# Altium schematic symbol library roboime.SchLib: 65 symbols
Pins are listed as number, name and electrical type; pins without a type are passive.

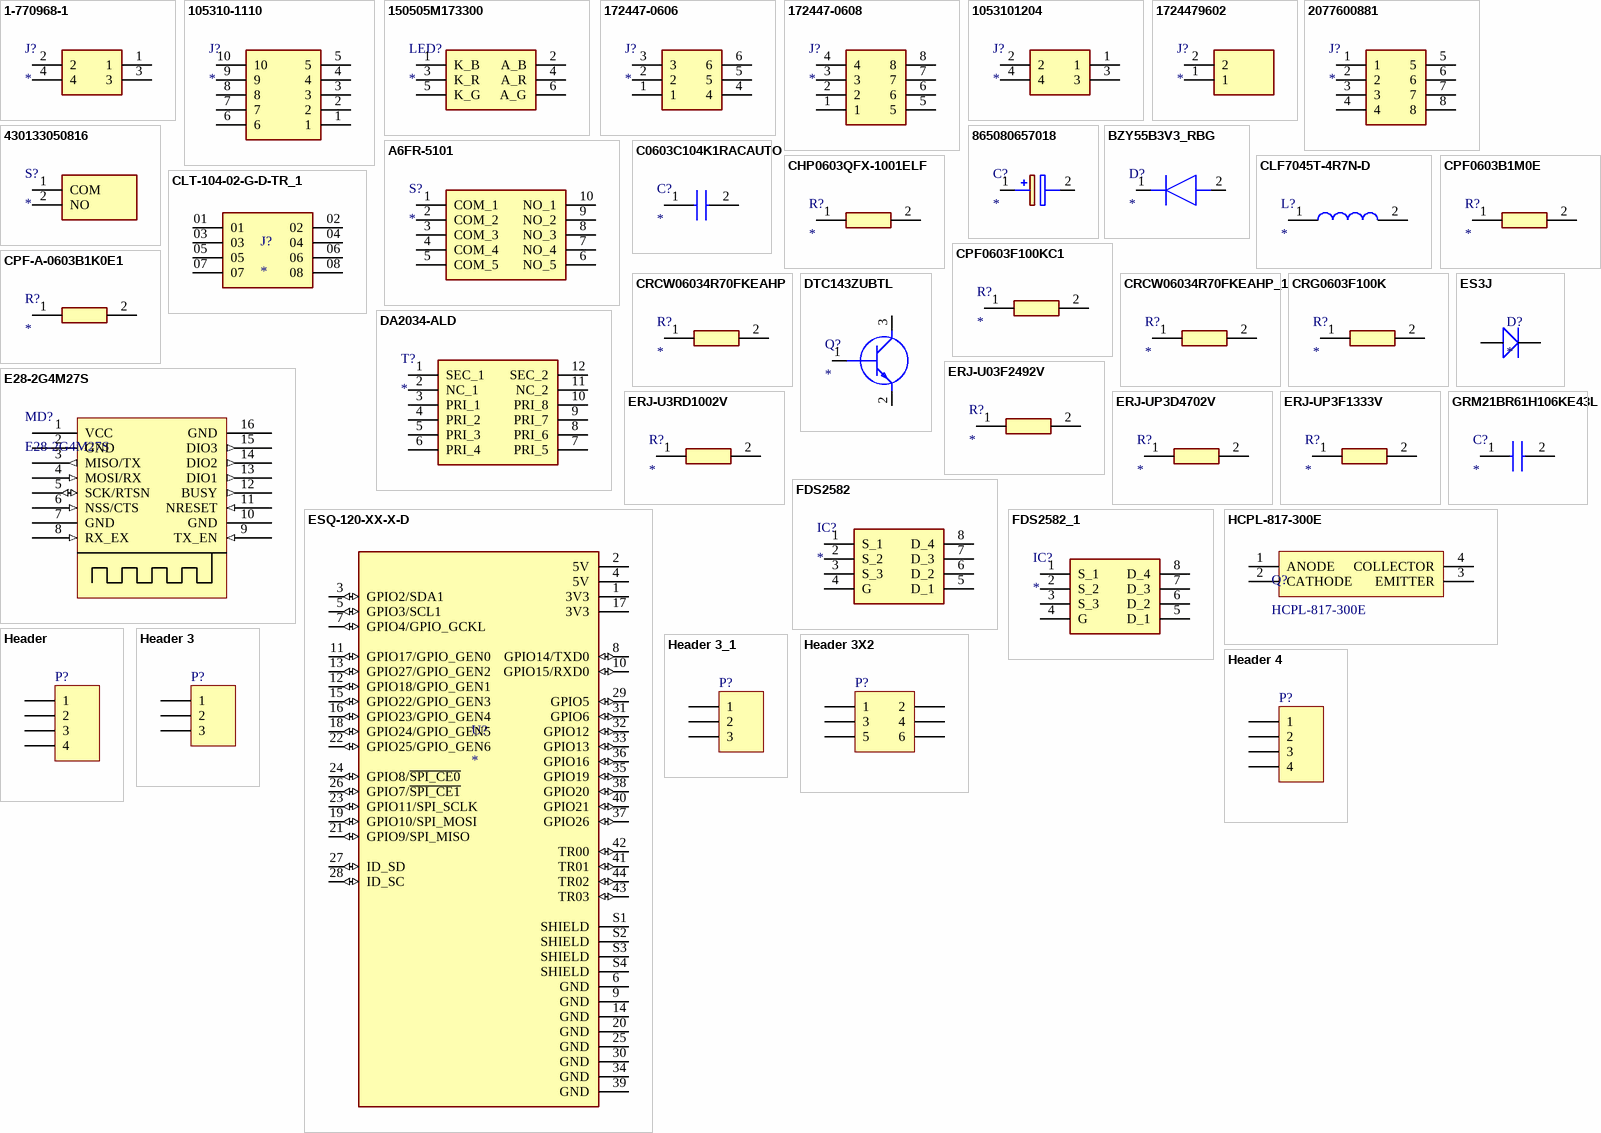
[diagram p0: symbols 1-770968-1 to Header 4]

## 1-770968-1
designator J?
Connector; Manufacturer_Name: TE Connectivity; Manufacturer_Part_Number: 1-770968-1; Datasheet Link: https://datasheet.datasheetarchive.com/originals/distributors/Datasheets_SAMA/7eb448bec4e70340ec9a234650d12d67.pdf; Height: 11.86mm; Mouser Part Number: 571-1-770968-1; Mouser Price/Stock: https://www.mouser.co.uk/ProductDetail/TE-Connectivity-AMP/1-770968-1?qs=8ra417Yzz3ABzAIod6x5Lw%3D%3D; Arrow Part Number: 1-770968-1; Arrow Price/Stock: https://www.arrow.com/en/products/1-770968-1/te-connectivity?region=europe
footprint 17709681
pins: 1, 2, 3, 4

## 105310-1110
designator J?
Connector; Manufacturer_Name: Molex; Manufacturer_Part_Number: 105310-1110; Datasheet Link: https://www.molex.com/pdm_docs/sd/1053101110_sd.pdf?webSyncID=090114e7-ea8e-9787-c070-e8582bec0296&sessionGUID=771b0990-7150-0e04-30ce-34353ccdcb30; Height: 10.51mm; Mouser Part Number: 538-105310-1110; Mouser Price/Stock: https://www.mouser.co.uk/ProductDetail/Molex/105310-1110?qs=PqFvFmEiOr6xTZJaWkdhvQ%3D%3D
footprint 1053101110
pins: 1, 2, 3, 4, 5, 6, 7, 8, 9, 10

## 150505M173300
designator LED?
LED; Manufacturer_Name: Wurth Elektronik; Manufacturer_Part_Number: 150505M173300; Datasheet Link: https://katalog.we-online.de/led/datasheet/150505M173300.pdf; Height: 1.8mm; Mouser Part Number: 710-150505M173300; Mouser Price/Stock: https://www.mouser.co.uk/ProductDetail/Wurth-Elektronik/150505M173300?qs=fAHHVMwC%252Bbi%2FURn4Qu0%2FAA%3D%3D
footprint 150505M173300
pins: 1 K_B, 2 A_B, 3 K_R, 4 A_R, 5 K_G, 6 A_G

## 172447-0606
designator J?
Connector; Manufacturer_Name: Molex; Manufacturer_Part_Number: 172447-0606; Datasheet Link: https://www.molex.com/pdm_docs/sd/1724470406_sd.pdf; Height: 12.8mm; Mouser Part Number: 538-172447-0606; Mouser Price/Stock: https://www.mouser.co.uk/ProductDetail/Molex/172447-0606?qs=t7xnP681wgUnuNdnB4N%252Bbw%3D%3D
footprint 172447-YY06
pins: 1, 2, 3, 4, 5, 6

## 172447-0608
designator J?
Connector; Manufacturer_Name: Molex; Manufacturer_Part_Number: 172447-0608; Datasheet Link: https://www.molex.com/pdm_docs/sd/1724470406_sd.pdf; Height: 12.8mm; Mouser Part Number: 538-172447-0608; Mouser Price/Stock: https://www.mouser.co.uk/ProductDetail/Molex/172447-0608?qs=t7xnP681wgUaroQMnMhOkA%3D%3D
footprint 172447-YY08
pins: 1, 2, 3, 4, 5, 6, 7, 8

## 1053101204
designator J?
Connector; Manufacturer_Name: Molex; Manufacturer_Part_Number: 1053101204; Datasheet Link: https://www.molex.com/pdm_docs/sd/1053101204_sd.pdf; Height: 10.51mm; Arrow Part Number: 1053101204; Arrow Price/Stock: https://www.arrow.com/en/products/1053101204/molex?region=nac
footprint 105310YY04_3
pins: 1, 2, 3, 4

## 1724479602
designator J?
Connector; Manufacturer_Name: Molex; Manufacturer_Part_Number: 1724479602; Datasheet Link: https://www.molex.com/pdm_docs/sd/1724470402_sd.pdf; Height: 12.8mm
footprint 172447_94959697_02
pins: 1, 2

## 2077600881
designator J?
Connector; Manufacturer_Name: Molex; Manufacturer_Part_Number: 2077600881; Datasheet Link: https://www.molex.com/pdm_docs/sd/5054480831_sd.pdf; Height: 7.25mm
footprint 20776008YY
pins: 1, 2, 3, 4, 5, 6, 7, 8

## 430133050816
designator S?
Switch; Manufacturer_Name: Wurth Elektronik; Manufacturer_Part_Number: 430133050816; Datasheet Link: https://www.we-online.com/components/products/datasheet/430133050816.pdf; Height: 5.2mm; Mouser Part Number: 710-430133050816; Mouser Price/Stock: https://www.mouser.co.uk/ProductDetail/Wurth-Elektronik/430133050816?qs=ufv2HEpFn%252BRy3i84BABEDg%3D%3D
footprint 430133050816
pins: 1 COM, 2 NO

## 865080657018
designator C?
Capacitor Polarised; Manufacturer_Name: Wurth Elektronik; Manufacturer_Part_Number: 865080657018; Datasheet Link: https://www.we-online.com/catalog/datasheet/865080657018.pdf; Height: 10.5mm; Mouser Part Number: 710-865080657018; Mouser Price/Stock: https://www.mouser.co.uk/ProductDetail/Wurth-Elektronik/865080657018?qs=0KOYDY2FL28CcgHzg1XTuA%3D%3D
footprint CAPAE1030X1050N
pins: 1 +, 2 -

## A6FR-5101
designator S?
Switch; Manufacturer_Name: Omron Electronics; Manufacturer_Part_Number: A6FR-5101; Datasheet Link: https://www.mouser.com/datasheet/2/307/omron_03202018_A6FR_datasheet-1314011.pdf; Height: 10.3mm; Mouser Part Number: 653-A6FR-5101; Mouser Price/Stock: https://www.mouser.co.uk/ProductDetail/Omron-Electronics/A6FR-5101?qs=fAHHVMwC%252BbhmGWTU7%252Bb5wg%3D%3D; Arrow Part Number: A6FR-5101; Arrow Price/Stock: https://www.arrow.com/en/products/a6fr5101/omron?region=nac
footprint A6FR5101
pins: 1 COM_1, 2 COM_2, 3 COM_3, 4 COM_4, 5 COM_5, 6 NO_5, 7 NO_4, 8 NO_3, 9 NO_2, 10 NO_1

## BZY55B3V3_RBG
designator D?
Diode; Manufacturer_Name: Taiwan Semiconductor; Manufacturer_Part_Number: BZY55B3V3 RBG; Datasheet Link: https://componentsearchengine.com/Datasheets/1/BZY55B3V3 RBG.pdf; Height: 0.85mm; Mouser Part Number: 821-BZY55B3V3RBG; Mouser Price/Stock: https://www.mouser.co.uk/ProductDetail/Taiwan-Semiconductor/BZY55B3V3-RBG?qs=mAH9sUMRCtvrJdI%2FtfeTug%3D%3D
footprint BZY55B3V3RBG (Footprint not found)
pins: 1 K, 2 A

## C0603C104K1RACAUTO
designator C?
Capacitor; Manufacturer_Name: KEMET; Manufacturer_Part_Number: C0603C104K1RACAUTO; Datasheet Link: https://connect.kemet.com:7667/gateway/IntelliData-ComponentDocumentation/1.0/download/specsheet/C0603C104K1RACAUTO; Height: 0.95mm; Mouser Part Number: 80-C0603C104K1RAUTO; Mouser Price/Stock: https://www.mouser.co.uk/ProductDetail/KEMET/C0603C104K1RACAUTO?qs=3Rah4i%252BhyCGTQ5uPNXtfZA%3D%3D; Arrow Part Number: C0603C104K1RACAUTO; Arrow Price/Stock: https://www.arrow.com/en/products/c0603c104k1racauto/kemet-corporation?region=europe
footprint CAPC1608X95N
pins: 1, 2

## CHP0603QFX-1001ELF
designator R?
Resistor; Manufacturer_Name: Bourns; Manufacturer_Part_Number: CHP0603QFX-1001ELF; Datasheet Link: http://www.bourns.com/docs/Product-Datasheets/CHP-Q.pdf; Height: 0.55mm; Mouser Part Number: 652-CHP0603QFX-1001E; Mouser Price/Stock: https://www.mouser.co.uk/ProductDetail/Bourns/CHP0603QFX-1001ELF?qs=8Wlm6%252BaMh8TVmVuLViesjw%3D%3D; Arrow Part Number: CHP0603QFX-1001ELF; Arrow Price/Stock: https://www.arrow.com/en/products/chp0603qfx-1001elf/bourns?region=nac
footprint RESC1608X55N
pins: 1, 2

## CLF7045T-4R7N-D
designator L?
Inductor; Manufacturer_Name: TDK; Manufacturer_Part_Number: CLF7045T-4R7N-D; Datasheet Link: https://product.tdk.com/system/files/dam/doc/product/inductor/inductor/smd/wdcatalog/withdrawn_inductor_commercial_power_clf7045_en.pdf; Height: 4.8mm; Mouser Part Number: 810-CLF7045T-4R7N-D; Mouser Price/Stock: https://www.mouser.co.uk/ProductDetail/TDK/CLF7045T-4R7N-D?qs=ilIqL0%2F%2FoDU8gjMEHwFGUQ%3D%3D; Arrow Part Number: CLF7045T-4R7N-D; Arrow Price/Stock: https://www.arrow.com/en/products/clf7045t-4r7n-d/tdk
footprint CLF7045-D
pins: 1, 2

## CLT-104-02-G-D-TR_1
designator J?
8 Position Receptacle Connector 0.079 (2.00mm) Surface Mount Gold; MF: Samtec; MP: CLT-104-02-G-D-TR; SnapEDA_Link: https://www.snapeda.com/parts/CLT-104-02-G-D-TR/Samtec/view-part/?ref=snap; Package: None; Value: *; Check_prices: https://www.snapeda.com/parts/CLT-104-02-G-D-TR/Samtec/view-part/?ref=eda
footprint CLT-104-02-G-D-TR
pins: 01, 02, 03, 04, 05, 06, 07, 08

## CPF0603B1M0E
designator R?
Resistor; Manufacturer_Name: TE Connectivity; Manufacturer_Part_Number: CPF0603B1M0E; Datasheet Link: http://www.farnell.com/datasheets/1786775.pdf; Height: 0.55mm; Mouser Part Number: 279-CPF0603B1M0E; Mouser Price/Stock: https://www.mouser.co.uk/ProductDetail/TE-Connectivity-Holsworthy/CPF0603B1M0E?qs=Odivq8ja524CQN2CWCs1cg%3D%3D; Arrow Part Number: CPF0603B1M0E; Arrow Price/Stock: https://www.arrow.com/en/products/cpf0603b1m0e/te-connectivity?region=nac
footprint RESC1608X55N
pins: 1, 2

## CPF0603F100KC1
designator R?
Resistor; Manufacturer_Name: TE Connectivity; Manufacturer_Part_Number: CPF0603F100KC1; Datasheet Link: http://www.farnell.com/datasheets/1786775.pdf; Height: 0.55mm; Mouser Part Number: 279-CPF0603F100KC1; Mouser Price/Stock: https://www.mouser.co.uk/ProductDetail/TE-Connectivity-Holsworthy/CPF0603F100KC1?qs=n4i9pByFsMRwvDu9p24AYA%3D%3D; Arrow Part Number: CPF0603F100KC1; Arrow Price/Stock: https://www.arrow.com/en/products/cpf0603f100kc1/te-connectivity?region=nac
footprint RESC1608X55N
pins: 1, 2

## CPF-A-0603B1K0E1
designator R?
Resistor; Manufacturer_Name: TE Connectivity; Manufacturer_Part_Number: CPF-A-0603B1K0E1; Description: TE CONNECTIVITY - CPF-A-0603B1K0E1 - SMD Chip Resistor; Datasheet Link: https://componentsearchengine.com/Datasheets/2/CPF-A-0603B1K0E1.pdf; Height: 0.55mm; Mouser Part Number: 279-CPF-A-0603B1K0E1; Mouser Price/Stock: https://www.mouser.co.uk/ProductDetail/TE-Connectivity-Holsworthy/CPF-A-0603B1K0E1?qs=Rv6LVDxB0ZpCjx0kmO%252BiwA%3D%3D
footprint RESC1608X55N
pins: 1, 2

## CRCW06034R70FKEAHP
designator R?
Resistor; Manufacturer_Name: Vishay; Manufacturer_Part_Number: CRCW06034R70FKEAHP; Description: Vishay CRCW Series Thick Film Power Resistor 0603 Case 4.7 +/-1% 0.1W +/-100ppm/K; Datasheet Link: http://uk.rs-online.com/web/p/products/8206877; Height: 0.55mm; Mouser Part Number: 71-CRCW06034R70FKEAH; Mouser Price/Stock: https://www.mouser.co.uk/ProductDetail/Vishay-Dale/CRCW06034R70FKEAHP?qs=zlv9Rr0w%252BHo2DV5S%252Bz7lug%3D%3D; Arrow Part Number: CRCW06034R70FKEAHP; Arrow Price/Stock: https://www.arrow.com/en/products/crcw06034r70fkeahp/vishay?region=nac
footprint RESC1608X55N
pins: 1, 2

## CRCW06034R70FKEAHP_1
designator R?
Resistor; Manufacturer_Name: Vishay; Manufacturer_Part_Number: CRCW06034R70FKEAHP; Description: Vishay CRCW Series Thick Film Power Resistor 0603 Case 4.7 +/-1% 0.1W +/-100ppm/K; Datasheet Link: http://uk.rs-online.com/web/p/products/8206877; Height: 0.55mm; Mouser Part Number: 71-CRCW06034R70FKEAH; Mouser Price/Stock: https://www.mouser.co.uk/ProductDetail/Vishay-Dale/CRCW06034R70FKEAHP?qs=zlv9Rr0w%252BHo2DV5S%252Bz7lug%3D%3D; Arrow Part Number: CRCW06034R70FKEAHP; Arrow Price/Stock: https://www.arrow.com/en/products/crcw06034r70fkeahp/vishay?region=nac
footprint RESC1608X55N
pins: 1, 2

## CRG0603F100K
designator R?
Resistor; Manufacturer_Name: TE Connectivity; Manufacturer_Part_Number: CRG0603F100K; Datasheet Link: http://docs-europe.electrocomponents.com/webdocs/13d1/0900766b813d116f.pdf; Height: 0.55mm; Mouser Part Number: 279-CRG0603F100K; Mouser Price/Stock: https://www.mouser.co.uk/ProductDetail/TE-Connectivity-Holsworthy/CRG0603F100K?qs=VHcS2MTj4gaG9fI5w0o7FA%3D%3D; Arrow Part Number: CRG0603F100K; Arrow Price/Stock: https://www.arrow.com/en/products/crg0603f100k/te-connectivity?region=nac
footprint RESC1608X55N
pins: 1, 2

## DA2034-ALD
designator T?
Transformer; Manufacturer_Name: COILCRAFT; Manufacturer_Part_Number: DA2034-ALD; Datasheet Link: https://www.coilcraft.com/pdfs/da2032.pdf; Height: 11.43mm; Mouser Part Number: 994-DA2034-ALD; Mouser Price/Stock: https://www.mouser.co.uk/ProductDetail/Coilcraft/DA2034-ALD?qs=ZYnrCdKdyedtN304hL7iMg%3D%3D
footprint SOP300P3000X1143-12N
pins: 1 SEC_1, 2 NC_1, 3 PRI_1, 4 PRI_2, 5 PRI_3, 6 PRI_4, 7 PRI_5, 8 PRI_6, 9 PRI_7, 10 PRI_8, 11 NC_2, 12 SEC_2

## DTC143ZUBTL
designator Q?
Transistor BJT NPN; Manufacturer_Name: ROHM Semiconductor; Manufacturer_Part_Number: DTC143ZUBTL; Datasheet Link: https://componentsearchengine.com/Datasheets/2/DTC143ZUBTL.pdf; Height: 1.05mm; Mouser Part Number: 755-DTC143ZUBTL; Mouser Price/Stock: https://www.mouser.co.uk/ProductDetail/ROHM-Semiconductor/DTC143ZUBTL?qs=IsRgwgmxh6%2Ffuj9yCN7zBQ%3D%3D
footprint SOTFL65P210X105-3N
pins: 1 B, 2 E, 3 C

## E28-2G4M27S
designator MD?
E28-2G4M27S Ebyte SX1280 Module
footprint E28-2G4M27S (E28-2G4M27S Module)
pins: 1 VCC (power), 2 GND (power), 3 MISO/TX (out), 4 MOSI/RX (in), 5 SCK/RTSN (io), 6 NSS/CTS (in), 7 GND (power), 8 RX_EX (in), 9 TX_EN (in), 10 GND (power), 11 NRESET (in), 12 BUSY (out), 13 DIO1 (out), 14 DIO2 (out), 15 DIO3 (out), 16 GND (power)

## ERJ-U03F2492V
designator R?
Resistor; Manufacturer_Name: Panasonic; Manufacturer_Part_Number: ERJ-U03F2492V; Datasheet Link: http://industrial.panasonic.com/cdbs/www-data/pdf/RDP0000/AOA0000C334.pdf; Height: 0.55mm; Mouser Part Number: 667-ERJ-U03F2492V; Mouser Price/Stock: https://www.mouser.co.uk/ProductDetail/Panasonic/ERJ-U03F2492V?qs=pdFhdcvjjggoxhbYOGQCqA%3D%3D
footprint ERJS03J155V
pins: 1, 2

## ERJ-U3RD1002V
designator R?
Resistor; Manufacturer_Name: Panasonic; Manufacturer_Part_Number: ERJ-U3RD1002V; Datasheet Link: https://industrial.panasonic.com/cdbs/www-data/pdf/RDP0000/RDP0000C343.pdf; Height: 0.55mm; Mouser Part Number: 667-ERJ-U3RD1002V; Mouser Price/Stock: https://www.mouser.co.uk/ProductDetail/Panasonic/ERJ-U3RD1002V?qs=TiOZkKH1s2Rg0qUjKdWcPw%3D%3D; Arrow Part Number: ERJ-U3RD1002V; Arrow Price/Stock: https://www.arrow.com/en/products/erj-u3rd1002v/panasonic?region=nac
footprint RESC1608X55N
pins: 1, 2

## ERJ-UP3D4702V
designator R?
Resistor; Manufacturer_Name: Panasonic; Manufacturer_Part_Number: ERJ-UP3D4702V; Datasheet Link: https://industrial.panasonic.com/cdbs/www-data/pdf/RDP0000/AOA0000C337.pdf; Height: 0.55mm; Mouser Part Number: 667-ERJ-UP3D4702V; Mouser Price/Stock: https://www.mouser.co.uk/ProductDetail/Panasonic/ERJ-UP3D4702V?qs=GedFDFLaBXG9rkg%252BckNv2g%3D%3D
footprint ERJUP3
pins: 1, 2

## ERJ-UP3F1333V
designator R?
Resistor; Manufacturer_Name: Panasonic; Manufacturer_Part_Number: ERJ-UP3F1333V; Datasheet Link: https://industrial.panasonic.com/cdbs/www-data/pdf/RDP0000/AOA0000C337.pdf; Height: 0.55mm; Mouser Part Number: 667-ERJ-UP3F1333V; Mouser Price/Stock: https://www.mouser.co.uk/ProductDetail/Panasonic/ERJ-UP3F1333V?qs=GedFDFLaBXHzgPg3lbsA%252Bw%3D%3D
footprint ERJUP3
pins: 1, 2

## ES3J
designator D?
footprint Diode
pins: D1+, D1-

## ESQ-120-XX-X-D
designator U?
BCM2711 Raspberry Pi 4 Model B 4GB - ARMÂ® CortexÂ®-A72 MPU Embedded Evaluation Board; MP: RASPBERRY PI 4B/4GB; Price: None; MF: Raspberry Pi; Check_prices: https://www.snapeda.com/parts/RASPBERRY%20PI%204B/4GB/Raspberry+Pi/view-part/?ref=eda; Value: *; Purchase-URL: https://pricing.snapeda.com/search/part/RASPBERRY PI 4B/4GB/?ref=eda; Availability: In Stock; SnapEDA_Link: https://www.snapeda.com/parts/RASPBERRY%20PI%204B/4GB/Raspberry+Pi/view-part/?ref=snap; Package: None
footprint RASP4
pins: 1 3V3 (power), 2 5V (power), 3 GPIO2/SDA1 (io), 4 5V (power), 5 GPIO3/SCL1 (io), 6 GND (power), 7 GPIO4/GPIO_GCKL (io), 8 GPIO14/TXD0 (io), 9 GND (power), 10 GPIO15/RXD0 (io), 11 GPIO17/GPIO_GEN0 (io), 12 GPIO18/GPIO_GEN1 (io), 13 GPIO27/GPIO_GEN2 (io), 14 GND (power), 15 GPIO22/GPIO_GEN3 (io), 16 GPIO23/GPIO_GEN4 (io), 17 3V3 (power), 18 GPIO24/GPIO_GEN5 (io), 19 GPIO10/SPI_MOSI (io), 20 GND (power), 21 GPIO9/SPI_MISO (io), 22 GPIO25/GPIO_GEN6 (io), 23 GPIO11/SPI_SCLK (io), 24 GPIO8/~{SPI_CE0} (io), 25 GND (power), 26 GPIO7/~{SPI_CE1} (io), 27 ID_SD (io), 28 ID_SC (io), 29 GPIO5 (io), 30 GND (power), 31 GPIO6 (io), 32 GPIO12 (io), 33 GPIO13 (io), 34 GND (power), 35 GPIO19 (io), 36 GPIO16 (io), 37 GPIO26 (io), 38 GPIO20 (io), 39 GND (power), 40 GPIO21 (io), 41 TR01 (io), 42 TR00 (io), 43 TR03 (io), 44 TR02 (io), S1 SHIELD (power), S2 SHIELD (power), S3 SHIELD (power), S4 SHIELD (power)

## FDS2582
designator IC?
Integrated Circuit; Manufacturer_Name: onsemi; Manufacturer_Part_Number: FDS2582; Datasheet Link: https://www.onsemi.com/pub/Collateral/FDS2582-D.pdf; Height: 1.75mm; Mouser Part Number: 512-FDS2582; Mouser Price/Stock: https://www.mouser.co.uk/ProductDetail/ON-Semiconductor-Fairchild/FDS2582/?qs=9%2FFjV4%2Fi8epQRusZUcRtHQ%3D%3D; Arrow Part Number: FDS2582; Arrow Price/Stock: https://www.arrow.com/en/products/fds2582/on-semiconductor
footprint SOIC127P600X175-8N
pins: 1 S_1, 2 S_2, 3 S_3, 4 G, 5 D_1, 6 D_2, 7 D_3, 8 D_4

## FDS2582_1
designator IC?
Integrated Circuit; Manufacturer_Name: onsemi; Manufacturer_Part_Number: FDS2582; Datasheet Link: https://www.onsemi.com/pub/Collateral/FDS2582-D.pdf; Height: 1.75mm; Mouser Part Number: 512-FDS2582; Mouser Price/Stock: https://www.mouser.co.uk/ProductDetail/ON-Semiconductor-Fairchild/FDS2582/?qs=9%2FFjV4%2Fi8epQRusZUcRtHQ%3D%3D; Arrow Part Number: FDS2582; Arrow Price/Stock: https://www.arrow.com/en/products/fds2582/on-semiconductor
footprint SOIC127P600X175-8N
pins: 1 S_1, 2 S_2, 3 S_3, 4 G, 5 D_1, 6 D_2, 7 D_3, 8 D_4

## GRM21BR61H106KE43L
designator C?
Capacitor; Manufacturer_Name: Murata Electronics; Manufacturer_Part_Number: GRM21BR61H106KE43L; Datasheet Link: http://www.murata.com/~/media/webrenewal/support/library/catalog/products/capacitor/mlcc/c02e.pdf; Height: 1.45mm; Mouser Part Number: 81-GRM21BR61H106KE3L; Mouser Price/Stock: https://www.mouser.co.uk/ProductDetail/Murata-Electronics/GRM21BR61H106KE43L?qs=lYGu3FyN48cBZlIduWKclg%3D%3D; Arrow Part Number: GRM21BR61H106KE43L; Arrow Price/Stock: https://www.arrow.com/en/products/grm21br61h106ke43l/murata-manufacturing?region=europe
footprint C0805
pins: 1, 2

## HCPL-817-300E
designator Q?
Manufacturer_Part_Number: HCPL-817-300E
footprint HCPL-817-300
pins: 1 ANODE, 2 CATHODE, 3 EMITTER, 4 COLLECTOR

## Header
designator P?
Header, 4-Pin; LatestRevisionDate: 17-Jul-2002; LatestRevisionNote: Re-released for DXP Platform.; Publisher: Altium Limited
footprint Header_4 (Connector; Header; 4 Position)
signal-integrity model Connector
pins: 1, 2, 3, 4

## Header 3
designator P?
Header, 3-Pin; LatestRevisionDate: 17-Jul-2002; LatestRevisionNote: Re-released for DXP Platform.; Publisher: Altium Limited
footprint HDR1X3 (Connector; Header; 3 Position)
signal-integrity model Connector
pins: 1, 2, 3

## Header 3_1
designator P?, comment Header 3  (value not drawn)
Header, 3-Pin; ASiD Part Number: Header 3-AS
footprint My_1X03
signal-integrity model Connector
footprint My_CN3
footprint MY_MSTBA3
footprint MY_6410-03
footprint MY_7395-03
footprint MY_FE03
footprint MY_FE03W
footprint MY_MA03-1W
pins: 1, 2, 3

## Header 3X2
designator P?
Header, 3-Pin, Dual row; LatestRevisionDate: 17-Jul-2002; LatestRevisionNote: Re-released for DXP Platform.; Publisher: Altium Limited
footprint HDR2X3 (Connector; Header; 3x2 Position)
signal-integrity model Connector
pins: 1, 2, 3, 4, 5, 6

## Header 4
designator P?
Header, 4-Pin; LatestRevisionDate: 17-Jul-2002; LatestRevisionNote: Re-released for DXP Platform.; Publisher: Altium Limited
footprint HDR1X4 (Connector; Header; 4 Position)
signal-integrity model Connector
pins: 1, 2, 3, 4

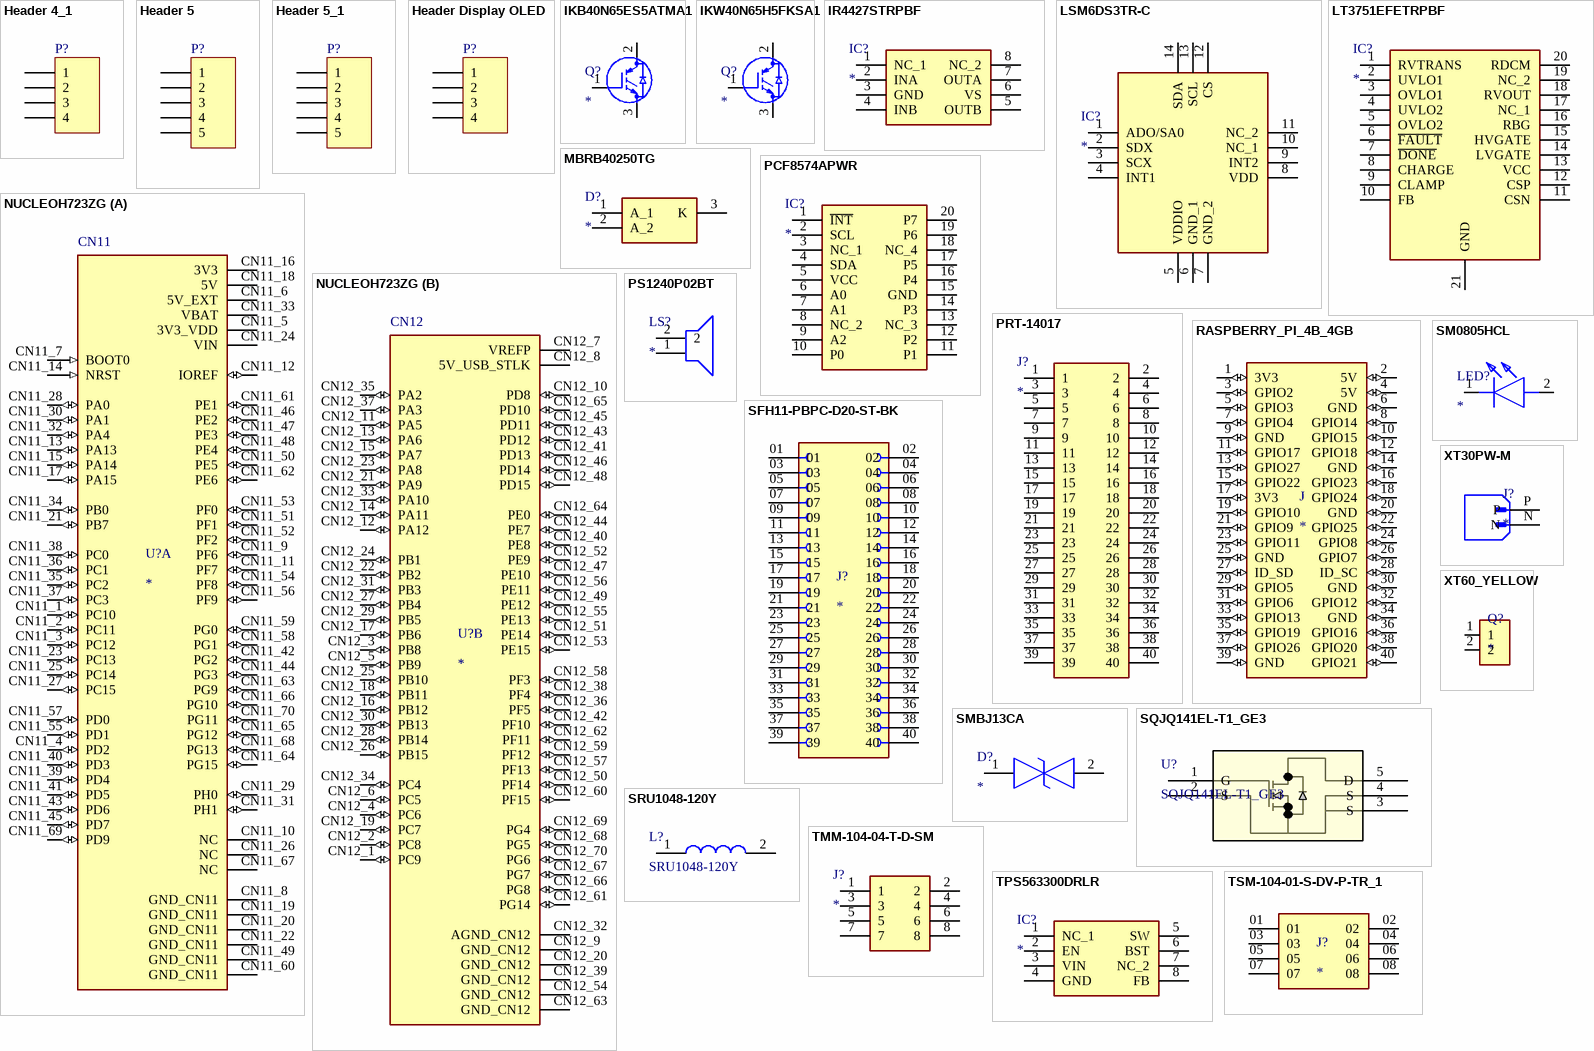
[diagram p1: symbols Header 4_1 to XT60_YELLOW]

## Header 4_1
designator P?, comment Header 4  (value not drawn)
Header, 4-Pin; ASiD Part Number: Header 4-AS
footprint My_1X04
signal-integrity model Connector
footprint MY_MSTBA4
footprint MY_FPC4_1mm
footprint MY_6410-04
footprint MY_7395-04
footprint MY_FE04
footprint MY_FE04W
footprint MY_MA04-1W
pins: 1, 2, 3, 4

## Header 5
designator P?
Header, 5-Pin; LatestRevisionDate: 17-Jul-2002; LatestRevisionNote: Re-released for DXP Platform.; Publisher: Altium Limited
footprint HDR1X5 (Connector; Header; 5 Position)
signal-integrity model Connector
pins: 1, 2, 3, 4, 5

## Header 5_1
designator P?, comment Header 5  (value not drawn)
Header, 5-Pin; ASiD Part Number: Header 5-AS
footprint My_1X05
signal-integrity model Connector
footprint MY_MSTBA5
footprint MY_1x05_SMD
footprint MY_6410-05
footprint MY_7395-05
footprint MY_FE05
footprint MY_FE05W
footprint MY_MA05-1W
pins: 1, 2, 3, 4, 5

## Header Display OLED
designator P?
Header, 4-Pin; LatestRevisionDate: 17-Jul-2002; LatestRevisionNote: Re-released for DXP Platform.; Publisher: Altium Limited
footprint OLED (Connector; Header; 4 Position)
signal-integrity model Connector
pins: 1, 2, 3, 4

## IKB40N65ES5ATMA1
designator Q?
Transistor IGBT; Manufacturer_Name: Infineon; Manufacturer_Part_Number: IKB40N65ES5ATMA1; Datasheet Link: https://componentsearchengine.com/Datasheets/1/IKB40N65ES5ATMA1.pdf; Height: 4.4mm; Mouser Part Number: 726-IKB40N65ES5ATMA1; Mouser Price/Stock: https://www.mouser.co.uk/ProductDetail/Infineon-Technologies/IKB40N65ES5ATMA1?qs=MLItCLRbWsxz7jtfFbVz2w%3D%3D; Arrow Part Number: IKB40N65ES5ATMA1; Arrow Price/Stock: https://www.arrow.com/en/products/ikb40n65es5atma1/infineon-technologies-ag?region=nac
footprint BTS141TCBUMA1
pins: 1 G, 2 C, 3 E

## IKW40N65H5FKSA1
designator Q?
Transistor IGBT; Manufacturer_Name: Infineon; Manufacturer_Part_Number: IKW40N65H5FKSA1; Datasheet Link: https://componentsearchengine.com/Datasheets/2/IKW40N65H5FKSA1.pdf; Height: 5.21mm; Mouser Part Number: 726-IKW40N65H5FKSA1; Mouser Price/Stock: https://www.mouser.co.uk/ProductDetail/Infineon-Technologies/IKW40N65H5FKSA1?qs=LxJ0xX%2FWJR5XJ3XCd56U1A%3D%3D; Arrow Part Number: IKW40N65H5FKSA1; Arrow Price/Stock: https://www.arrow.com/en/products/ikw40n65h5fksa1/infineon-technologies-ag?region=europe
footprint TO544P521X1592X2557-3P
pins: 1 G, 2 C, 3 E

## IR4427STRPBF
designator IC?
Integrated Circuit; Manufacturer_Name: Infineon; Manufacturer_Part_Number: IR4427STRPBF; Datasheet Link: https://www.infineon.com/cms/en/product/power/gate-driver-ics/?; Height: 1.75mm; Mouser Part Number: 942-IR4427STRPBF; Mouser Price/Stock: https://www.mouser.co.uk/ProductDetail/Infineon-Technologies/IR4427STRPBF?qs=2r01AXMCG3ORTiwk6i%252BavQ%3D%3D; Arrow Part Number: IR4427STRPBF; Arrow Price/Stock: https://www.arrow.com/en/products/ir4427strpbf/infineon-technologies-ag?region=nac
footprint SOIC127P600X175-8N
pins: 1 NC_1, 2 INA, 3 GND, 4 INB, 5 OUTB, 6 VS, 7 OUTA, 8 NC_2

## LSM6DS3TR-C
designator IC?
Integrated Circuit; Manufacturer_Name: STMicroelectronics; Manufacturer_Part_Number: LSM6DS3TR-C; Datasheet Link: http://www.st.com/resource/en/datasheet/lsm6ds3tr-c.pdf; Mouser Part Number: 511-LSM6DS3TR-C; Mouser Price/Stock: https://www.mouser.co.uk/ProductDetail/STMicroelectronics/LSM6DS3TR-C?qs=u4fy%2FsgLU9NHwPlhP3LTBw%3D%3D; Arrow Part Number: LSM6DS3TR-C; Arrow Price/Stock: https://www.arrow.com/en/products/lsm6ds3tr-c/stmicroelectronics?region=nac
footprint LGA-14(2.5X3X0.86)
pins: 1 ADO/SA0, 2 SDX, 3 SCX, 4 INT1, 5 VDDIO, 6 GND_1, 7 GND_2, 8 VDD, 9 INT2, 10 NC_1, 11 NC_2, 12 CS, 13 SCL, 14 SDA

## LT3751EFETRPBF
designator IC?
Integrated Circuit; Manufacturer_Name: Analog Devices; Manufacturer_Part_Number: LT3751EFETRPBF; Datasheet Link: https://www.mouser.in/datasheet/2/609/3751fd-1269554.pdf; Height: 1.2mm
footprint SOP65P640X120-21N
pins: 1 RVTRANS, 2 UVLO1, 3 OVLO1, 4 UVLO2, 5 OVLO2, 6 ~{FAULT}, 7 ~{DONE}, 8 CHARGE, 9 CLAMP, 10 FB, 11 CSN, 12 CSP, 13 VCC, 14 LVGATE, 15 HVGATE, 16 RBG, 17 NC_1, 18 RVOUT, 19 NC_2, 20 RDCM, 21 GND

## MBRB40250TG
designator D?
Diode; Manufacturer_Name: onsemi; Manufacturer_Part_Number: MBRB40250TG; Datasheet Link: http://www.onsemi.com/pub/Collateral/MBR40250-D.PDF; Height: 4mm; Mouser Part Number: 863-MBRB40250TG; Mouser Price/Stock: https://www.mouser.co.uk/ProductDetail/onsemi/MBRB40250TG?qs=LDM2r2BBpnauVBr3B8aUGg%3D%3D; Arrow Part Number: MBRB40250TG; Arrow Price/Stock: https://www.arrow.com/en/products/mbrb40250tg/on-semiconductor?region=nac
footprint MBRB41H100CTT4G
pins: 1 A_1, 2 A_2, 3 K

## NUCLEOH723ZG
designator U?
STM32H723ZG Nucleo-144 STM32H7 STM32 MCU 32-Bit Embedded Evaluation Board; MF: STMicroelectronics; MP: NUCLEOH723ZG; Value: *; Purchase-URL: https://pricing.snapeda.com/search/part/NUCLEOH723ZG/?ref=eda; Package: None; Check_prices: https://www.snapeda.com/parts/NUCLEOH723ZG/STMicroelectronics/view-part/?ref=eda; Price: None; SnapEDA_Link: https://www.snapeda.com/parts/NUCLEOH723ZG/STMicroelectronics/view-part/?ref=snap; Availability: In Stock
footprint NEW_NUCLEO
part A pins: CN11_1 PC10 (io), CN11_2 PC11 (io), CN11_3 PC12 (io), CN11_4 PD2 (io), CN11_5 3V3_VDD (power), CN11_6 5V_EXT (power), CN11_7 BOOT0 (in), CN11_8 GND_CN11 (power), CN11_9 PF6 (io), CN11_10 NC, CN11_11 PF7 (io), CN11_12 IOREF (io), CN11_13 PA13 (io), CN11_14 NRST (in), CN11_15 PA14 (io), CN11_16 3V3 (power), CN11_17 PA15 (io), CN11_18 5V (power), CN11_19 GND_CN11 (power), CN11_20 GND_CN11 (power), CN11_21 PB7 (io), CN11_22 GND_CN11 (power), CN11_23 PC13 (io), CN11_24 VIN (power), CN11_25 PC14 (io), CN11_26 NC, CN11_27 PC15 (io), CN11_28 PA0 (io), CN11_29 PH0 (io), CN11_30 PA1 (io), CN11_31 PH1 (io), CN11_32 PA4 (io), CN11_33 VBAT (power), CN11_34 PB0 (io), CN11_35 PC2 (io), CN11_36 PC1 (io), CN11_37 PC3 (io), CN11_38 PC0 (io), CN11_39 PD4 (io), CN11_40 PD3 (io), CN11_41 PD5 (io), CN11_42 PG2 (io), CN11_43 PD6 (io), CN11_44 PG3 (io), CN11_45 PD7 (io), CN11_46 PE2 (io), CN11_47 PE3 (io), CN11_48 PE4 (io), CN11_49 GND_CN11 (power), CN11_50 PE5 (io), CN11_51 PF1 (io), CN11_52 PF2 (io), CN11_53 PF0 (io), CN11_54 PF8 (io), CN11_55 PD1 (io), CN11_56 PF9 (io), CN11_57 PD0 (io), CN11_58 PG1 (io), CN11_59 PG0 (io), CN11_60 GND_CN11 (power), CN11_61 PE1 (io), CN11_62 PE6 (io), CN11_63 PG9 (io), CN11_64 PG15 (io), CN11_65 PG12 (io), CN11_66 PG10 (io), CN11_67 NC, CN11_68 PG13 (io), CN11_69 PD9 (io), CN11_70 PG11 (io)
part B pins: CN12_1 PC9 (io), CN12_2 PC8 (io), CN12_3 PB8 (io), CN12_4 PC6 (io), CN12_5 PB9 (io), CN12_6 PC5 (io), CN12_7 VREFP (power), CN12_8 5V_USB_STLK (power), CN12_9 GND_CN12 (power), CN12_10 PD8 (io), CN12_11 PA5 (io), CN12_12 PA12 (io), CN12_13 PA6 (io), CN12_14 PA11 (io), CN12_15 PA7 (io), CN12_16 PB12 (io), CN12_17 PB6 (io), CN12_18 PB11 (io), CN12_19 PC7 (io), CN12_20 GND_CN12 (power), CN12_21 PA9 (io), CN12_22 PB2 (io), CN12_23 PA8 (io), CN12_24 PB1 (io), CN12_25 PB10 (io), CN12_26 PB15 (io), CN12_27 PB4 (io), CN12_28 PB14 (io), CN12_29 PB5 (io), CN12_30 PB13 (io), CN12_31 PB3 (io), CN12_32 AGND_CN12 (power), CN12_33 PA10 (io), CN12_34 PC4 (io), CN12_35 PA2 (io), CN12_36 PF5 (io), CN12_37 PA3 (io), CN12_38 PF4 (io), CN12_39 GND_CN12 (power), CN12_40 PE8 (io), CN12_41 PD13 (io), CN12_42 PF10 (io), CN12_43 PD12 (io), CN12_44 PE7 (io), CN12_45 PD11 (io), CN12_46 PD14 (io), CN12_47 PE10 (io), CN12_48 PD15 (io), CN12_49 PE12 (io), CN12_50 PF14 (io), CN12_51 PE14 (io), CN12_52 PE9 (io), CN12_53 PE15 (io), CN12_54 GND_CN12 (power), CN12_55 PE13 (io), CN12_56 PE11 (io), CN12_57 PF13 (io), CN12_58 PF3 (io), CN12_59 PF12 (io), CN12_60 PF15 (io), CN12_61 PG14 (io), CN12_62 PF11 (io), CN12_63 GND_CN12 (power), CN12_64 PE0 (io), CN12_65 PD10 (io), CN12_66 PG8 (io), CN12_67 PG7 (io), CN12_68 PG5 (io), CN12_69 PG4 (io), CN12_70 PG6 (io)
part A text: CN11
part B text: CN12

## PCF8574APWR
designator IC?
Integrated Circuit; Manufacturer_Name: Texas Instruments; Manufacturer_Part_Number: PCF8574APWR; Datasheet Link: http://www.ti.com/lit/ds/symlink/pcf8574a.pdf; Height: 1.2mm; Mouser Part Number: 595-PCF8574APWR; Mouser Price/Stock: https://www.mouser.co.uk/ProductDetail/Texas-Instruments/PCF8574APWR?qs=bkMXpVdiF42gbWVI8U3xeA%3D%3D; Arrow Part Number: PCF8574APWR; Arrow Price/Stock: https://www.arrow.com/en/products/pcf8574apwr/texas-instruments?region=nac
footprint SOP65P640X120-20N
pins: 1 ~{INT}, 2 SCL, 3 NC_1, 4 SDA, 5 VCC, 6 A0, 7 A1, 8 NC_2, 9 A2, 10 P0, 11 P1, 12 P2, 13 NC_3, 14 P3, 15 GND, 16 P4, 17 P5, 18 NC_4, 19 P6, 20 P7

## PRT-14017
designator J?
Connector; Manufacturer_Name: SparkFun; Manufacturer_Part_Number: PRT-14017; Datasheet Link: https://componentsearchengine.com/Datasheets/1/PRT-14017.pdf; Height: 13.75mm; Mouser Part Number: 474-PRT-14017; Mouser Price/Stock: https://www.mouser.co.uk/ProductDetail/SparkFun/PRT-14017?qs=a4BXICGgSn%2F%252BaML822b65A%3D%3D; Arrow Part Number: PRT-14017; Arrow Price/Stock: https://www.arrow.com/en/products/prt-14017/sparkfun-electronics?region=nac
footprint RHDR40W64P254_2X20_5130X500X1375P
pins: 1, 2, 3, 4, 5, 6, 7, 8, 9, 10, 11, 12, 13, 14, 15, 16, 17, 18, 19, 20, 21, 22, 23, 24, 25, 26, 27, 28, 29, 30, 31, 32, 33, 34, 35, 36, 37, 38, 39, 40

## PS1240P02BT
designator LS?
Loudspeaker or Buzzer; Manufacturer_Name: TDK; Manufacturer_Part_Number: PS1240P02BT; Datasheet Link: https://product.tdk.com/system/files/dam/doc/product/sw_piezo/sw_piezo/piezo-buzzer/catalog/piezoelectronic_buzzer_ps_en.pdf; Mouser Part Number: 810-PS1240P02BT; Mouser Price/Stock: https://www.mouser.co.uk/ProductDetail/TDK/PS1240P02BT?qs=d7g9p1yFhWaZXSY9MjKMkw%3D%3D; Arrow Part Number: PS1240P02BT; Arrow Price/Stock: https://www.arrow.com/en/products/ps1240p02bt/tdk?region=nac
footprint PS1240P02BT
pins: 1, 2

## RASPBERRY_PI_4B_4GB
designator J
ESQ Series .100 PC/104â„¢ Elevated Socket Strip; MP: ESQ-120-38-S-D; MF: Samtec; Digi-Key_Purchase_URL: https://www.digikey.com/product-detail/en/samtec-inc/ESQ-120-38-S-D/ESQ-120-38-S-D-ND/7098755?utm_source=snapeda&utm_medium=aggregator&utm_campaign=symbol; SnapEDA_Link: https://www.snapeda.com/parts/ESQ-120-38-S-D/Samtec%20Inc/view-part/786160/?ref=snap; Digi-Key_Part_Number: ESQ-120-38-S-D-ND; Value: *; Package: None
footprint ESQ-120-XX-X-D (Footprint not found)
pins: 1 3V3 (io), 2 5V (io), 3 GPIO2 (io), 4 5V (io), 5 GPIO3 (io), 6 GND (io), 7 GPIO4 (io), 8 GPIO14 (io), 9 GND (io), 10 GPIO15 (io), 11 GPIO17 (io), 12 GPIO18 (io), 13 GPIO27 (io), 14 GND (io), 15 GPIO22 (io), 16 GPIO23 (io), 17 3V3 (io), 18 GPIO24 (io), 19 GPIO10 (io), 20 GND (io), 21 GPIO9 (io), 22 GPIO25 (io), 23 GPIO11 (io), 24 GPIO8 (io), 25 GND (io), 26 GPIO7 (io), 27 ID_SD (io), 28 ID_SC (io), 29 GPIO5 (io), 30 GND (io), 31 GPIO6 (io), 32 GPIO12 (io), 33 GPIO13 (io), 34 GND (io), 35 GPIO19 (io), 36 GPIO16 (io), 37 GPIO26 (io), 38 GPIO20 (io), 39 GND (io), 40 GPIO21 (io)

## SFH11-PBPC-D20-ST-BK
designator J?
40 Position Header Connector 0.100 (2.54mm) Through Hole Gold; MF: Sullins Connector; MP: SFH11-PBPC-D20-ST-BK; Value: *; Check_prices: https://www.snapeda.com/parts/SFH11-PBPC-D20-ST-BK/Sullins+Connector+Solutions/view-part/?ref=eda; Digi-Key_Part_Number: S9200-ND; Package: None; Purchase-URL: https://pricing.snapeda.com/search/part/SFH11-PBPC-D20-ST-BK/?ref=eda; SnapEDA_Link: https://www.snapeda.com/parts/SFH11-PBPC-D20-ST-BK/Sullins+Connector+Solutions/view-part/?ref=snap
footprint SULLINS_SFH11-PBPC-D20-ST-BK
pins: 01, 02, 03, 04, 05, 06, 07, 08, 09, 10, 11, 12, 13, 14, 15, 16, 17, 18, 19, 20, 21, 22, 23, 24, 25, 26, 27, 28, 29, 30, 31, 32, 33, 34, 35, 36, 37, 38, 39, 40

## SM0805HCL
designator LED?
LED; Manufacturer_Name: Bivar; Manufacturer_Part_Number: SM0805HCL; Datasheet Link: https://datasheet.datasheetarchive.com/originals/distributors/Datasheets-28/DSA-548818.pdf; Height: 1.054mm; Mouser Part Number: 749-SM0805HCL; Mouser Price/Stock: https://www.mouser.co.uk/ProductDetail/Bivar/SM0805HCL?qs=jaLxTFIJCiunRhy8mE7Amw%3D%3D; Arrow Part Number: SM0805HCL; Arrow Price/Stock: https://www.arrow.com/en/products/sm0805hcl/bivar?region=nac
footprint LEDC2012X105N
pins: 1 K, 2 A

## SMBJ13CA
designator D?
TVS Diode (Bi-directional); Manufacturer_Name: Bourns; Manufacturer_Part_Number: SMBJ13CA; Datasheet Link: https://componentsearchengine.com/Datasheets/2/SMBJ13CA.pdf; Height: 2.65mm; Mouser Part Number: 652-SMBJ13CA; Mouser Price/Stock: https://www.mouser.co.uk/ProductDetail/Bourns/SMBJ13CA?qs=d7fLapxX37FPbKcZvfOanQ%3D%3D; Arrow Part Number: SMBJ13CA; Arrow Price/Stock: https://www.arrow.com/en/products/smbj13ca/bourns?region=nac
footprint DIONM5336X265N
pins: 1, 2

## SQJQ141EL-T1_GE3
designator U?
No Description Available; Mfr_Name: Vishay; Copyright: Copyright (C) 2023 Ultra Librarian. All rights reserved.; Manufacturer_Part_Number: SQJQ141EL-T1_GE3; RefDes: RefDes; Type: DEV
footprint PowerPAK_8x8L_BWL-2_VIS
pins: 1 G, 2 S, 3 S, 4 S, 5 D

## SRU1048-120Y
designator L?
Inductor 12uH 4A; Manufacturer_Name: TDK; Manufacturer_Part_Number: CLF7045T-4R7N-D; Datasheet Link: https://product.tdk.com/system/files/dam/doc/product/inductor/inductor/smd/wdcatalog/withdrawn_inductor_commercial_power_clf7045_en.pdf; Height: 4.8mm; Mouser Part Number: 810-CLF7045T-4R7N-D; Mouser Price/Stock: https://www.mouser.co.uk/ProductDetail/TDK/CLF7045T-4R7N-D?qs=ilIqL0%2F%2FoDU8gjMEHwFGUQ%3D%3D; Arrow Part Number: CLF7045T-4R7N-D; Arrow Price/Stock: https://www.arrow.com/en/products/clf7045t-4r7n-d/tdk
footprint INDP100100X51N (Precision Wire Wound Inductor, 2-Leads, Body 10.00x10.00mm, IPC Medium Density)
pins: 1, 2

## TMM-104-04-T-D-SM
designator J?
Connector; Manufacturer_Name: SAMTEC; Manufacturer_Part_Number: TMM-104-04-T-D-SM; Datasheet Link: http://suddendocs.samtec.com/prints/tmm-1xx-xx-xx-x-sm-xx-x-mkt.pdf
footprint TMM-104-YY-XX-D-SM
pins: 1, 2, 3, 4, 5, 6, 7, 8

## TPS563300DRLR
designator IC?
Integrated Circuit; Manufacturer_Name: Texas Instruments; Manufacturer_Part_Number: TPS563300DRLR; Datasheet Link: https://www.ti.com/lit/ds/symlink/tps563300.pdf?ts=1666035990155&ref_url=https%253A%252F%252Fwww.ti.com%252Fproduct%252FTPS563300; Height: 0.6mm; Mouser Part Number: 595-TPS563300DRLR; Mouser Price/Stock: https://www.mouser.co.uk/ProductDetail/Texas-Instruments/TPS563300DRLR?qs=vvQtp7zwQdMDxJAw0dSlAg%3D%3D
footprint SOTFL50P160X60-8N
pins: 1 NC_1, 2 EN, 3 VIN, 4 GND, 5 SW, 6 BST, 7 NC_2, 8 FB

## TSM-104-01-S-DV-P-TR_1
designator J?
MP: TSM-104-01-S-DV-P-TR; MF: Samtec; Value: *; Package: None; Price: None; Availability: Unavailable
footprint TSM-104-01-S-DV-P-TR
pins: 01, 02, 03, 04, 05, 06, 07, 08

## XT30PW-M
designator J?
Socket; DC supply; XT30; male; PIN: 2; on PCBs; THT; Colour: yellow; MF: AMASS; MP: XT30PW-M; Package: None; Price: None; Value: *; SnapEDA_Link: https://www.snapeda.com/parts/XT30PW-M/AMASS/view-part/?ref=snap; Availability: Not in stock; Check_prices: https://www.snapeda.com/parts/XT30PW-M/AMASS/view-part/?ref=eda
footprint AMASS_XT30PW-M
pins: N (power), P (power)

## XT60_YELLOW
designator Q?
Power connector; 65A; PIN: 2; Colour: yellow; MP: XT60 YELLOW; MF: Pololu; SnapEDA_Link: https://www.snapeda.com/parts/XT60%20YELLOW/Pololu/view-part/?ref=snap; Availability: Not in stock; Package: None; Check_prices: https://www.snapeda.com/parts/XT60%20YELLOW/Pololu/view-part/?ref=eda; Value: *; Price: None
footprint AMASS_XT60PB-M
pins: 1, 2